# Altium footprint library lga.PcbLib: 4 footprints
Each footprint in its own frame and in the unit in brackets; x right, y up, seen from the top. Pads: shape width x height; smd on the part's side, far side on the other; paste and mask are expansions set on the pad; w line width, h text height; cw(c..) or ccw(c..) is an arc to the next point about the centre after c.
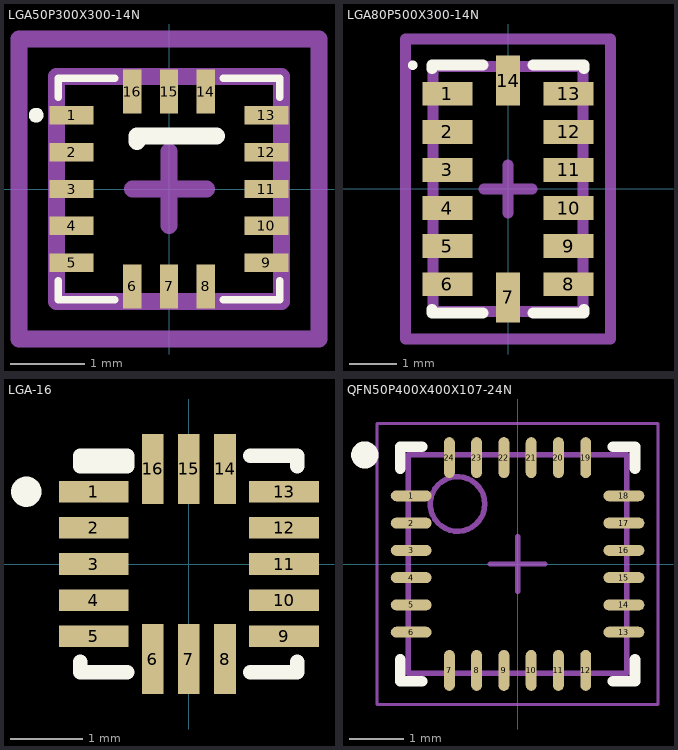
[diagram p0: the footprints below, top view; thin cyan lines are the x and y axes]

## LGA50P300X300-14N [mm]
height 1
pads (16):
  rect 0.6x0.25 smd mask+0: 1(-1.32,1) 2(-1.32,0.5) 3(-1.32,0) 4(-1.32,-0.5) 5(-1.32,-1) 9(1.32,-1) 10(1.32,-0.5) 11(1.32,0) 12(1.32,0.5) 13(1.32,1)
  rect 0.25x0.6 smd mask+0: 6(-0.5,-1.32) 7(0,-1.32) 8(0.5,-1.32) 14(0.5,1.32) 15(0,1.32) 16(-0.5,1.32)
Top Overlay:
  circle w0.1: c-1.8,1 r0.05
  lines w0.1: -1.5,-1.245 -1.5,-1.5 -0.737,-1.5 ; -1.5,1.245 -1.5,1.5 -0.737,1.5 ; 0.737,-1.5 1.5,-1.5 1.5,-1.245 ; 0.737,1.5 1.5,1.5 1.5,1.245
  lines w0.229: -0.433,0.644 -0.433,0.719 0.642,0.719
Mechanical 13:
  lines w0.229: -1.524,-1.524 -1.524,1.524 1.524,1.524 1.524,-1.524 -1.524,-1.524
Mechanical 15:
  lines w0.229: -0.492,0 0.508,0 ; 0,-0.492 0,0.508 ; -2.032,-2.032 -2.032,2.032 2.032,2.032 2.032,-2.032 -2.032,-2.032
3D body: height 1, standoff 0, extent -1.524,-1.524 1.524,1.524

## LGA80P500X300-14N [mm]
height 1
pads (14):
  rect 1.05x0.5 smd: 1(-1.275,2) 2(-1.275,1.2) 3(-1.275,0.4) 4(-1.275,-0.4) 5(-1.275,-1.2) 6(-1.275,-2) 8(1.275,-2) 9(1.275,-1.2) 10(1.275,-0.4) 11(1.275,0.4) 12(1.275,1.2) 13(1.275,2)
  rect 0.5x1.05 smd: 7(0,-2.275) 14(0,2.275)
Top Overlay:
  circle w0.1: c-2,2.6 r0.05
  lines w0.229: -1.6,-2.525 -1.6,-2.6 -0.525,-2.6 ; -1.6,2.525 -1.6,2.6 -0.525,2.6 ; 0.525,-2.6 1.6,-2.6 1.6,-2.525 ; 0.525,2.6 1.6,2.6 1.6,2.525
Mechanical 13:
  lines w0.229: -1.575,-2.575 -1.575,2.575 1.575,2.575 1.575,-2.575 -1.575,-2.575
Mechanical 15:
  lines w0.229: -0.5,0 0.5,0 ; 0,-0.5 0,0.5 ; -2.15,-3.15 -2.15,3.15 2.15,3.15 2.15,-3.15 -2.15,-3.15
3D body "SW3dPS-LGA-14.STEP": height 1.03, standoff -0.4, extent -1.5,-2.5 1.5,2.5

## LGA-16 [mm] "QFN; 16 Leads; Body 3 x 3 x 1mm; Pitch 0.5 mm;"
height 0.9
pads (16):
  rect 0.967x0.3 smd: 1(-1.316,1) 2(-1.316,0.5) 3(-1.316,0) 4(-1.316,-0.5) 5(-1.316,-1) 9(1.316,-1) 10(1.316,-0.5) 11(1.316,0) 12(1.316,0.5) 13(1.316,1)
  rect 0.3x0.967 smd: 6(-0.5,-1.316) 7(0,-1.316) 8(0.5,-1.316) 14(0.5,1.316) 15(0,1.316) 16(-0.5,1.316)
Top Overlay:
  circle w0.22: c-2.25,1 r0.1
  lines w0.2: -1.5,-1.35 -1.5,-1.5 -0.85,-1.5 ; 0.85,-1.5 1.5,-1.5 1.5,-1.35 ; 0.85,1.5 1.5,1.5 1.5,1.35 ; -1.5,1.35 -1.5,1.5 -0.85,1.5 -0.85,1.35 -1.5,1.35
3D body: height 1, standoff 0, extent -1.5,-1.5 1.5,1.5

## QFN50P400X400X107-24N [mm] "QFN, 24-Leads, Body 4,00x4,00mm, Pitch 0,50mm, IPC Medium Density"
height 1.07
pads (24):
  oval 0.75x0.2 smd: 1(-1.95,1.25) 2(-1.95,0.75) 3(-1.95,0.25) 4(-1.95,-0.25) 5(-1.95,-0.75) 6(-1.95,-1.25) 13(1.95,-1.25) 14(1.95,-0.75) 15(1.95,-0.25) 16(1.95,0.25) 17(1.95,0.75) 18(1.95,1.25)
  oval 0.2x0.75 smd: 7(-1.25,-1.95) 8(-0.75,-1.95) 9(-0.25,-1.95) 10(0.25,-1.95) 11(0.75,-1.95) 12(1.25,-1.95) 19(1.25,1.95) 20(0.75,1.95) 21(0.25,1.95) 22(-0.25,1.95) 23(-0.75,1.95) 24(-1.25,1.95)
Top Overlay:
  circle w0.25: c-2.8,2 r0.125
  lines w0.2: -2.15,-1.75 -2.15,-2.15 -1.75,-2.15 ; -2.15,1.75 -2.15,2.15 -1.75,2.15 ; 1.75,-2.15 2.15,-2.15 2.15,-1.75 ; 1.75,2.15 2.15,2.15 2.15,1.75
Mechanical 13:
  circle w0.1: c-1.1,1.1 r0.5
  lines w0.1: -2,-2 -2,2 2,2 2,-2 -2,-2
Mechanical 15:
  lines w0.05: -2.575,-2.575 -2.575,2.575 2.575,2.575 2.575,-2.575 -2.575,-2.575
  lines w0.1: -0.5,0 0.5,0 ; 0,-0.5 0,0.5
3D body: height 1.07, standoff 0, extent -2,-2 2,2